# Altium integrated library My_Library_Optocouplers.IntLib: 2 symbols
Pins are listed as number, name and electrical type; pins without a type are passive.

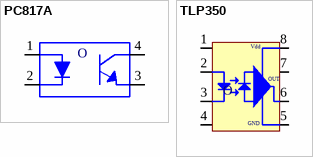
[diagram p0: symbols PC817A to TLP350]

## PC817A
designator O
Optoisolator Transistor Output 5000Vrms 1 Channel 4-DIP; MP: PC817A; MF: Taiwan Semiconductor; Availability: Unavailable; Package: DIP-4 Taiwan Semiconductor; SnapEDA_Link: https://www.snapeda.com/parts/PC817A/Taiwan%20Semiconductor%20Corporation/view-part/2178336/?ref=snap; Price: None; Value: *
footprint DIP762W50P254L650H458Q4B
pins: 1, 2, 3, 4

## TLP350
designator O
footprint DIP762W50P254L1018H450
pins: 1 NC, 2 Anode, 3 Cathode, 4 NC, 5 GND, 6 OUT, 7 NC, 8 Vcc
text: Vdd